# Altium footprint library 484-5100.PCBLIB: 1 footprints
Each footprint in its own frame and in the unit in brackets; x right, y up, seen from the top. Pads: shape width x height; smd on the part's side, far side on the other; paste and mask are expansions set on the pad; w line width, h text height; cw(c..) or ccw(c..) is an arc to the next point about the centre after c.
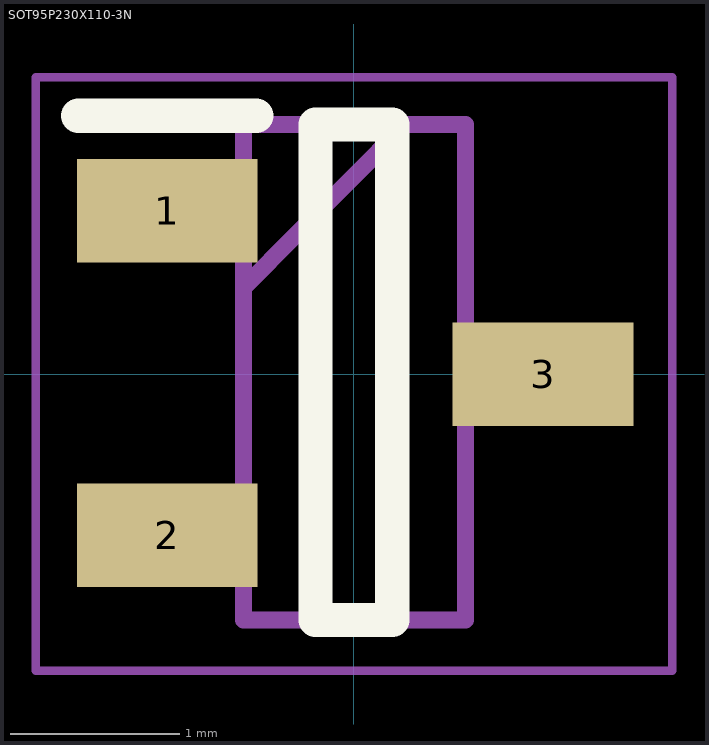
[diagram p0: the footprint, top view; thin cyan lines are the x and y axes]

## SOT95P230X110-3N [mil]
pads (3):
  rect 42x24 smd: 1(-43.31,38) 2(-43.31,-37.4) 3(44,0)
Top Overlay:
  lines w8: -63.98,60 -22.64,60 ; -8.86,-57.09 9,-57.09 9,58 -8.86,58 -8.86,-57.09
Courtyard Bottom:
  lines w2: -73.82,-68.9 74,-68.9 74,69 -73.82,69 -73.82,-68.9
  lines w4: -25.59,20 12,58 ; -25.59,-57.09 26,-57.09 26,58 -25.59,58 -25.59,-57.09